# Altium footprint library 20A_Fuse.PcbLib: 1 footprints
Each footprint in its own frame and in the unit in brackets; x right, y up, seen from the top. Pads: shape width x height; smd on the part's side, far side on the other; paste and mask are expansions set on the pad; w line width, h text height; cw(c..) or ccw(c..) is an arc to the next point about the centre after c.
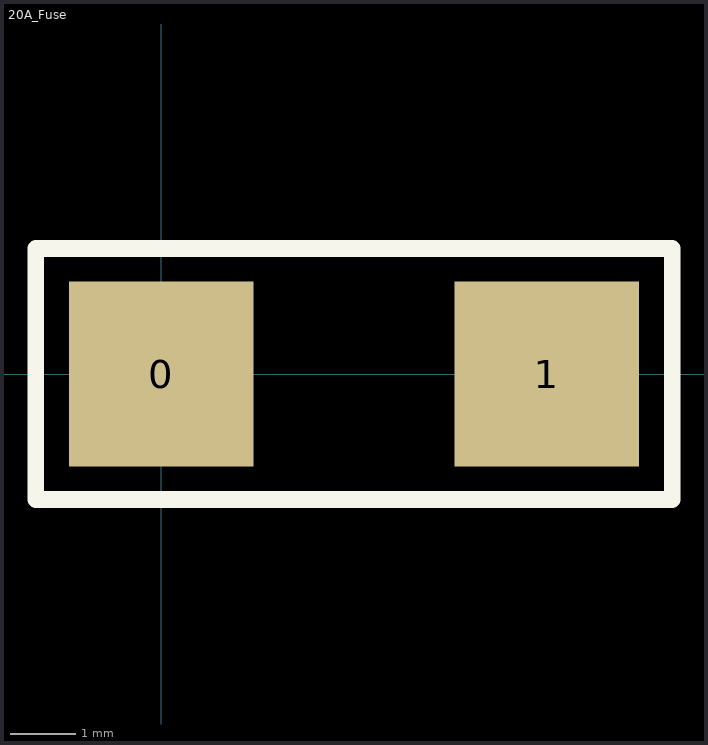
[diagram p0: the footprint, top view; thin cyan lines are the x and y axes]

## 20A_Fuse [mm]
pads (2):
  rect 2.8x2.8 smd mask+0.508: 0(0,0) 1(5.842,0)
Top Overlay:
  lines w0.254: -1.905,-1.905 -1.905,1.905 7.747,1.905 7.747,-1.905 -1.905,-1.905